# Altium footprint library USB_Molex_204926-1103.PcbLib: 1 footprints
Each footprint in its own frame and in the unit in brackets; x right, y up, seen from the top. Pads: shape width x height; smd on the part's side, far side on the other; paste and mask are expansions set on the pad; w line width, h text height; cw(c..) or ccw(c..) is an arc to the next point about the centre after c.
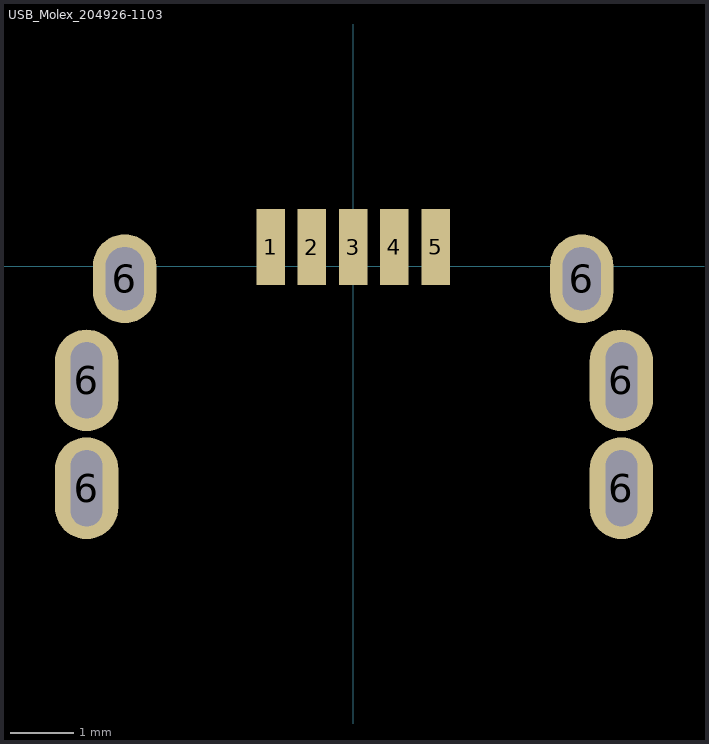
[diagram p0: the footprint, top view; thin cyan lines are the x and y axes]

## USB_Molex_204926-1103 [mm]
pads (11):
  rect 0.45x1.2 smd: 1(-1.3,0.3) 2(-0.65,0.3) 3(0,0.3) 4(0.65,0.3) 5(1.3,0.3)
  oval 1x1.6 hole 1.2 slot 0.5 at 0 deg: 6(-4.2,-3.5) 6(-4.2,-1.8) 6(4.225,-3.5) 6(4.225,-1.8)
  oval 1x1.4 hole 1 slot 0.6 at 0 deg: 6(-3.6,-0.2) 6(3.6,-0.2)
3D body "2049261103.stp": height 3.95, standoff -1, extent -4.632,-6.507 4.668,0.493